# EAGLE library part ATTINY1634 (library Atmel)
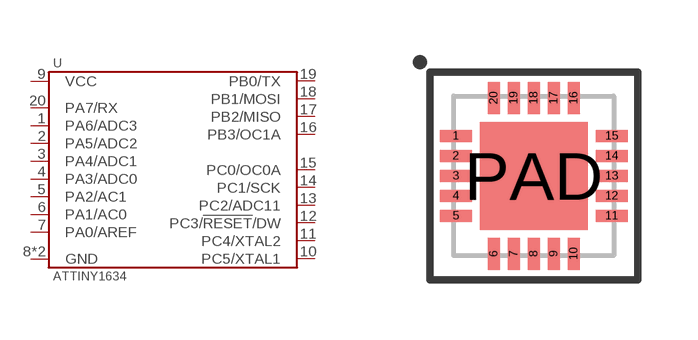
[diagram p30: symbol with the pads of QFN-20-4MM; footprint QFN-20-4MM]

Designator prefix U

## ATTINY1634-MNR  [QFN-20-4MM]
1  PA6/ADC3
2  PA5/ADC2
3  PA4/ADC1
4  PA3/ADC0
5  PA2/AC1
6  PA1/AC0
7  PA0/AREF
8  GND
9  VCC
10  PC5/XTAL1
11  PC4/XTAL2
12  PC3/!RESET!/DW
13  PC2/ADC11
14  PC1/SCK
15  PC0/OC0A
16  PB3/OC1A
17  PB2/MISO
18  PB1/MOSI
19  PB0/TX
20  PA7/RX
PAD  GND

## Footprint QFN-20-4MM (pad centres in mm)
smd 0.8 x 0.3: 1 -1.95,1; 2 -1.95,0.5; 3 -1.95,0; 4 -1.95,-0.5; 5 -1.95,-1; 11 1.95,-1; 12 1.95,-0.5; 13 1.95,0; 14 1.95,0.5; 15 1.95,1
smd 0.3 x 0.8: 6 -1,-1.95; 7 -0.5,-1.95; 8 0,-1.95; 9 0.5,-1.95; 10 1,-1.95; 16 1,1.95; 17 0.5,1.95; 18 0,1.95; 19 -0.5,1.95; 20 -1,1.95
smd 2.7 x 2.7: PAD 0,0